# Altium schematic symbol library Power.SchLib: 26 symbols
Pins are listed as number, name and electrical type; pins without a type are passive.

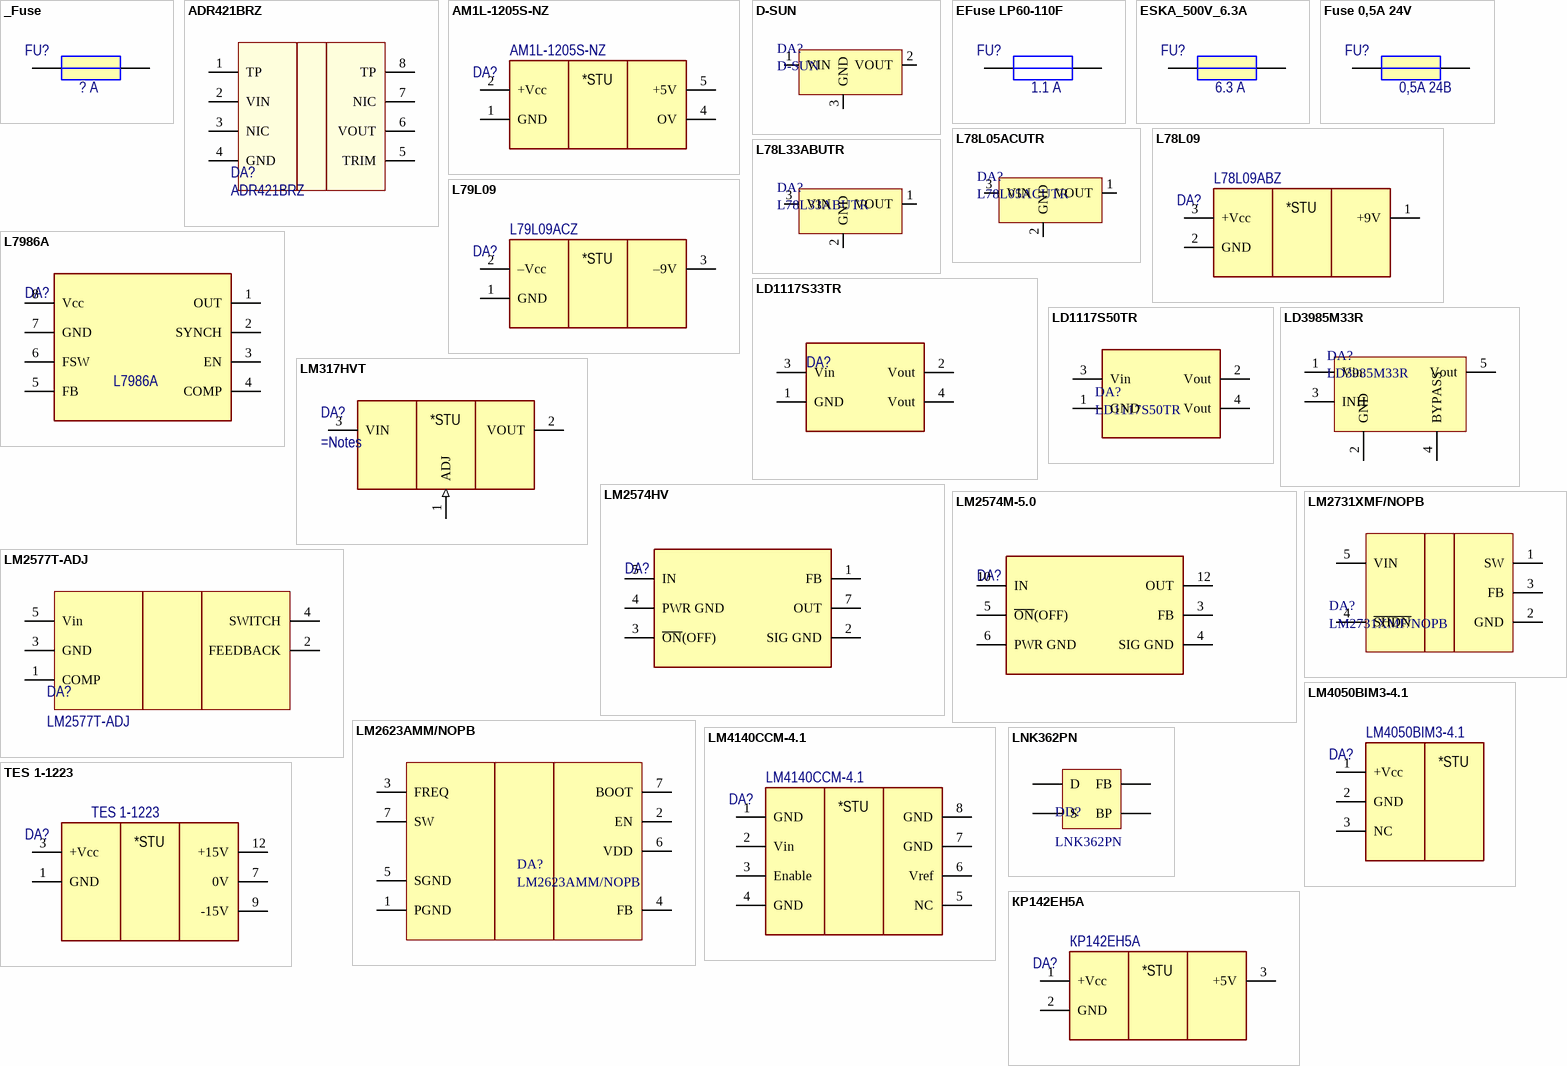
[diagram p0: symbols _Fuse to КР142ЕН5А]

## _Fuse
designator FU?, comment value ? А  (hidden comment: ?)
Fuse; ManufacturerPartNumber: ?; ComponentLink1Description: Datasheet
pins: 1, 2

## ADR421BRZ
designator DA?
IC VREF SERIES 2.5V 8SOIC; Manufacturer: Analog Devices Inc.; ComponentLink1URL: http://www.analog.com/media/en/technical-documentation/data-sheets/ADR420_421_423_425.pdf; ComponentLink1Description: http://www.analog.com/media/en/technical-documentation/data-sheets/ADR420_421_423_425.pdf; ManufacturerPartNumber: ADR421BRZ; Note: *; Price: 300; Supplier: Argussoft
footprint SO8 (SOIC, 8-Leads, Body 4,90x3,90mm, Pitch 1,27mm, IPC Low Density)
pins: 1 TP, 2 VIN, 3 NIC, 4 GND, 5 TRIM, 6 VOUT, 7 NIC, 8 TP

## AM1L-1205S-NZ
designator DA?
DC/DC Isolation; Manufacturer: AIMTEC; ComponentLink1URL: http://www.aimtec.com/site/Aimtec/files/Datasheet/HighResolution/AM1L-N-Z.pdf; Package: SMD-8; Price: 166,68; Supplier: Диджитек; ComponentLink1Description: Datasheet; ManufacturerPartNumber: AM1L-1205S-NZ
footprint SOP254P1120X625-8M (SOP, 8-Leads, Body 12,70x7,25mm, Pitch 2,54mm, IPC Low Density)
footprint SOP254P1120X625-8M (SOP, 8-Leads, Body 12,70x7,25mm, Pitch 2,54mm, IPC Low Density)
pins: 1 GND (power), 2 +Vcc (power), 4 OV (power), 5 +5V (power)
text: *STU

## D-SUN
designator DA?
DC-DC buck converter; Manufacturer: China; ManufacturerPartNumber: D-SUN
footprint D-SUN
pins: 1 VIN, 2 VOUT, 3 GND

## EFuse LP60-110F
designator FU?  value 1.1 А  (hidden comment: EFuse LP60-110F)
Fuse; ManufacturerPartNumber: EFuse LP60-110F; ComponentLink1Description: Datasheet; ComponentLink2Description: Datasheet-local; ComponentLink2URL: *
footprint EFuse 1.1A
pins: 1, 2

## ESKA_500V_6.3A
designator FU?, comment value 6.3 А  (hidden comment: ESKA 120.700 (1207))
Fuse; ManufacturerPartNumber: ESKA 120.700 (1207); ComponentLink1Description: Datasheet; ComponentLink1URL: http://conrad.ru/doci/dergatel_predohranitelya_eska__533920_multi.pdf; ComponentLink2Description: Datasheet-local; ComponentLink2URL: *
footprint ESKA_1207 (Держатель для предохранителя 5mm x 20mm)
pins: 1, 2

## Fuse 0,5A 24V
designator FU?, comment value 0,5А 24В  (hidden comment: miniSMDC050F-2)
Fuse 0,5А 36В; Manufacturer: RAYCHEM; ManufacturerPartNumber: miniSMDC050F-2; ComponentLink1Description: Datasheet; Price: 16,90; Supplier: Промэлектроника; ComponentLink2Description: Datasheet-local; ComponentLink2URL: *
footprint EFUSEC4632X06M (Chip eFuse, 2-Leads, Body 4,55x3,24mm, IPC Low Density)
pins: 1, 2

## L78L05ACUTR
designator DA?
STMICROELECTRONICS         L78L05ACUTR            Linear Voltage Regulator, Fixed, 3-Terminal, Positive, 10V To 30V In, 5V And 0.1A Out, SOT-89-3; Number of Outputs: 1; Max Output Current: 100mA; Quiescent Current: 6mA; Accuracy: 4%; Dropout Voltage: 1.7V; Min Input Voltage: 7V; Power Supply Rejection Ratio (PSRR): 49dB; Supplier 1: Digikey; Manufacturer: STMicroelectronics; ManufacturerPartNumber: L78L05ACUTR; Stock 1: 10000; Pricing 1: 2500=0.1188, 5000=0.1116, 12500=0.1044, 25000=0.0958, 62500=0.0922 (USD); Mount: Surface Mount; Case/Package: SOT-89; Number of Pins: 3; Weight: 0.004603oz; Contact Plating: Tin; Min Operating Temperature: 0°C; Max Operating Temperature: 125°C; Max Input Voltage: 30V; Output Voltage: 5V; Polarity: Positive; Package Quantity: 1; Packaging: Tape and Reel; Output Current: 100mA; Nominal Output Voltage: 5V; Number of Regulators: 1; Min Output Voltage: 5V; Output Voltage Accuracy: 4%; Length: 4.6mm; Height: 1.6mm; Width: 2.6mm; Radiation Hardening: No; REACH SVHC: No SVHC; Lead Free: Lead Free; ComponentLink1URL: https://datasheet.ciiva.com/4882/cd00000446-355303-4882429.pdf; ComponentLink1Description: https://datasheet.ciiva.com/4882/cd00000446-355303-4882429.pdf; ComponentLink2URL: https://datasheet.ciiva.com/22710/1868798-22710940.pdf; ComponentLink2Description: https://datasheet.ciiva.com/22710/1868798-22710940.pdf; ComponentLink3URL: https://datasheet.ciiva.com/2041/cd00000446-2041791.pdf; ComponentLink3Description: https://datasheet.ciiva.com/2041/cd00000446-2041791.pdf; ComponentLink4URL: https://datasheet.ciiva.com/2041/cd00000446-2041790.pdf; ComponentLink4Description: https://datasheet.ciiva.com/2041/cd00000446-2041790.pdf; ComponentLink5URL: https://datasheet.ciiva.com/1511/1868798-1511940.pdf; ComponentLink5Description: https://datasheet.ciiva.com/1511/1868798-1511940.pdf; ComponentLink6URL: https://datasheet.ciiva.com/2041/cd00000446-2041792.pdf; ComponentLink6Description: https://datasheet.ciiva.com/2041/cd00000446-2041792.pdf; ComponentLink7URL: https://datasheet.ciiva.com/16393/cd00000446-16393708.pdf; ComponentLink7Description: https://datasheet.ciiva.com/16393/cd00000446-16393708.pdf; ComponentLink8URL: https://datasheet.ciiva.com/7992/1868798-7992600.pdf; ComponentLink8Description: https://datasheet.ciiva.com/7992/1868798-7992600.pdf; Supplier Part Number 1: 497-1183-2-ND
footprint SOT89-150P409X160-3N (SOT89, 3-Leads, Body 4,50x2,45mm, Pitch 1,50mm, Lead Span 4,1mm, IPC Medium Density)
pins: 1 VOUT, 2 GND, 3 VIN

## L78L09
designator DA?, comment L78L09ABZ
DC/DC Positive; Manufacturer: ST Microelectronics; Package: TO-92; ComponentLink1URL: http://www.st.com/web/en/resource/technical/document/datasheet/CD00000446.pdf; ComponentLink1Description: Datasheet; Price: 10,88; Supplier: Промэлектроника; ManufacturerPartNumber: L78L09ABZ
footprint TO-92W (TO-92)
pins: 1 +9V (power), 2 GND (power), 3 +Vcc (power)
text: *STU

## L78L33ABUTR
designator DA?
Регулятор линейный 3,3В 0.1A. Uвх_max=30В SOT-89-3; Manufacturer: STMicroelectronics; ManufacturerPartNumber: L78L33ABUTR; ComponentLink1URL: https://datasheet.ciiva.com/4882/cd00000446-355303-4882429.pdf; ComponentLink1Description: https://datasheet.ciiva.com/4882/cd00000446-355303-4882429.pdf
footprint SOT89-150P409X160-3N (SOT89, 3-Leads, Body 4,50x2,45mm, Pitch 1,50mm, Lead Span 4,1mm, IPC Medium Density)
pins: 1 VOUT, 2 GND, 3 VIN

## L79L09
designator DA?, comment L79L09ACZ
DC/DC Negative; Manufacturer: ST Microelectronics; Package: TO-92; ComponentLink1Description: Datasheet; ComponentLink1URL: http://www.st.com/st-web-ui/static/active/en/resource/technical/document/datasheet/CD00000539.pdf; Supplier: Промэлектроника; Price: 14,77; ManufacturerPartNumber: L79L09ACZ
footprint TO-92W (TO-92)
pins: 1 GND (power), 2 –Vcc (power), 3 –9V (power)
text: *STU

## L7986A
designator DA?
3 A step-down switching regulator; Manufacturer: ST; Package: HSOP8; Supplier: Промэлектроника; ComponentLink1Description: Datasheet; ComponentLink1URL: http://www.st.com/web/en/resource/technical/document/datasheet/DM00041568.pdf; Price: 180; Note: Note; ManufacturerPartNumber: L7986A
footprint HSOP8 (SOIC, 8-Leads, Body 4,90x3,90mm, Pitch 1,27mm, IPC Low Density)
pins: 1 OUT "Regulator output", 2 SYNCH "Master/slave synchronization. When it is left floating, a signal with a phase shift of half a period, with respect to the power turn-on is present at the pin. When connected to an external signal at a frequency higher than the internal one, the device is synchronized by the external signal, with zero phase shift. Connecting together the SYNCH pin of two devices, the one with a higher frequency works as master and the other one as slave; so the two powers turn-ons have a phase shift of half a period.", 3 EN "A logical signal (active high) enables the device. With EN higher than 1.2 V the device is ON and with EN lower than 0.3 V the device is OFF", 4 COMP "Error amplifier output to be used for loop frequency compensation", 5 FB "Feedback input. By connecting the output voltage directly to this pin the output voltage is regulated at 0.6 V. To have higher regulated voltages an external resistor divider is required from Vout to the FB pin", 6 FSW "The switching frequency can be increased connecting an external resistor from the FSW pin and ground. If this pin is left floating, the device works at its free-running frequency of 250 KHz.", 7 GND "Ground", 8 Vcc "Unregulated DC input voltage"

## LD1117S33TR
designator DA?, comment LD1117
LDO регулятор напряжения 3.3V 1.0A Positive; Manufacturer: STMicroelectronics; ManufacturerPartNumber: LD1117S33TR; ComponentLink1URL: http://www.mouser.com/ds/2/389/CD00002116-250310.pdf; ComponentLink1Description: http://www.mouser.com/ds/2/389/CD00002116-250310.pdf; Price: 45; Note: *; Supplier: *
footprint SOT230P700X180-4L (SOT223, 4-Leads, Body 6,50x7,00mm (avg), Pitch 2,30mm, IPC High Density)
pins: 1 GND, 2 Vout, 3 Vin, 4 Vout

## LD1117S50TR
designator DA?
STMICROELECTRONICS         LD1117S50TR            Fixed LDO Voltage Regulator, 6.5V to 15V, 1.1V Dropout, 5Vout, 800mAout, SOT-223-3; Number of Outputs: 1; Max Output Current: 1.3A; Output Voltage: 5V; Max Power Dissipation: 12W; Polarity: Positive; Quiescent Current: 5mA; Accuracy: 1%; Output Current: 800mA; Supplier 1: Mouser; Manufacturer: STMicroelectronics; Manufacturer Part Number: LD1117S50TR; Stock 1: 251; Pricing 1: 1=0.5, 10=0.377, 50=0.377, 100=0.204, 1000=0.153, 10000=0.124 (USD); Mount: Surface Mount; Case/Package: SOT-223; Number of Pins: 4; Weight: 0.01lb; Number of Terminals: 4; Contact Plating: Tin,Matte; Min Operating Temperature: 0°C; Max Operating Temperature: 125°C; Max Input Voltage: 15V; Packaging: Tape and Reel; Dropout Voltage: 1.1V; Max Supply Voltage: 15V; Min Supply Voltage: 6.5V; Package Quantity: 1; Min Input Voltage: 6.5V; Nominal Output Voltage: 5V; Number of Regulators: 1; Input Bias Current: 5mA; Min Output Voltage: 5V; Power Dissipation: 12W; Max Output Voltage: 5V; Termination: SMD/SMT; Output Voltage Accuracy: 1%; Length: 6.5mm; Height: 1.8mm; Width: 3.5mm; Radiation Hardening: No; REACH SVHC: No SVHC; Lead Free: Lead Free; ComponentLink1URL: https://datasheet.ciiva.com/36525/1390266-36525981.pdf; ComponentLink1Description: https://datasheet.ciiva.com/36525/1390266-36525981.pdf; ComponentLink2URL: https://datasheet.ciiva.com/2041/cd00000544-2041931.pdf; ComponentLink2Description: https://datasheet.ciiva.com/2041/cd00000544-2041931.pdf; ComponentLink3URL: https://datasheet.ciiva.com/7992/1776449-7992623.pdf; ComponentLink3Description: https://datasheet.ciiva.com/7992/1776449-7992623.pdf; ComponentLink4URL: https://datasheet.ciiva.com/2041/cd00000544-2041930.pdf; ComponentLink4Description: https://datasheet.ciiva.com/2041/cd00000544-2041930.pdf; ComponentLink5URL: https://datasheet.ciiva.com/22694/1776449-22694853.pdf; ComponentLink5Description: https://datasheet.ciiva.com/22694/1776449-22694853.pdf; ComponentLink6URL: https://datasheet.ciiva.com/1511/1776449-1511575.pdf; ComponentLink6Description: https://datasheet.ciiva.com/1511/1776449-1511575.pdf; ComponentLink7URL: https://datasheet.ciiva.com/2041/cd00000544-2041929.pdf; ComponentLink7Description: https://datasheet.ciiva.com/2041/cd00000544-2041929.pdf; Supplier Part Number 1: 511-LD1117S50
footprint SOT230P700X180-4L (SOT223, 4-Leads, Body 6,50x7,00mm (avg), Pitch 2,30mm, IPC High Density)
pins: 1 GND, 2 Vout, 3 Vin, 4 Vout

## LD3985M33R
designator DA?
IC REG LDO 3.3V 0.15A SOT23-5; Manufacturer: STMicroelectronics; Min Input Voltage: 2.5V; Number of Outputs: 1; Max Input Voltage: 6V; Polarity: Positive; Quiescent Current: 150uA; Accuracy: 2%; Max Output Current: 150mA; Dropout Voltage: 60mV; Min Current Limit: 300mA; Input Bias Current: 85uA; Supplier 1: Mouser; Manufacturer Part Number: LD3985M33R; Stock 1: 8313; Pricing 1: 1=0.6, 10=0.496, 50=0.496, 100=0.32, 1000=0.256, 10000=0.209 (USD); Mount: Surface Mount; Case/Package: SOT-23; Number of Pins: 5; Min Operating Temperature: -40°C; Max Operating Temperature: 125°C; Output Voltage: 3.3V; Packaging: Tape and Reel; Package Quantity: 1; Output Current: 150mA; Number of Regulators: 1; Min Output Voltage: 3.3V; Output Voltage Accuracy: 2%; Length: 3mm; Height: 1.3mm; Width: 1.75mm; Radiation Hardening: No; Lead Free: Lead Free; ComponentLink1URL: https://datasheet.ciiva.com/41440/001185181-da-01-en-ic-reg-ldo-3-3v-ld3985m33r-sot-23-5-stm-41440289.pdf; ComponentLink1Description: https://datasheet.ciiva.com/41440/001185181-da-01-en-ic-reg-ldo-3-3v-ld3985m33r-sot-23-5-stm-41440289.pdf; ComponentLink2URL: https://datasheet.ciiva.com/26905/ld3985m33r-26905032.pdf; ComponentLink2Description: https://datasheet.ciiva.com/26905/ld3985m33r-26905032.pdf; ComponentLink3URL: https://datasheet.ciiva.com/2042/cd00003395-2042198.pdf; ComponentLink3Description: https://datasheet.ciiva.com/2042/cd00003395-2042198.pdf; ComponentLink4URL: https://datasheet.ciiva.com/2042/cd00003395-2042199.pdf; ComponentLink4Description: https://datasheet.ciiva.com/2042/cd00003395-2042199.pdf; ComponentLink5URL: https://datasheet.ciiva.com/2042/cd00003395-2042200.pdf; ComponentLink5Description: https://datasheet.ciiva.com/2042/cd00003395-2042200.pdf; ComponentLink6URL: https://datasheet.ciiva.com/16591/cd00003395-16591967.pdf; ComponentLink6Description: https://datasheet.ciiva.com/16591/cd00003395-16591967.pdf; Supplier Part Number 1: 511-LD3985M33R
footprint SOT95P280X145-5N (SOT23, 5-Leads, Body 3,13x2,80mm, Pitch 0,95mm, IPC Medium Density)
pins: 1 Vin (power), 2 GND (power), 3 INH (power), 4 BYPASS (power), 5 Vout (power)

## LM317HVT
designator DA?
DC/DC Positive Adj; Manufacturer: Texas Instruments; ManufacturerPartNumber: LM317HVT/NOPB; Note: LM317; Package: TO-220; ComponentLink1URL: http://www.ti.com/lit/ds/symlink/lm2574.pdf; ComponentLink1Description: Datasheet; Price: 100; Supplier: Промэлектроника
footprint TO220-R (Лежачий TO-220)
pins: 1 ADJ (in), 2 VOUT (power), 3 VIN (power)
text: *STU

## LM2574HV
designator DA?
Импульсный преобразователь Uвх<=60В; Manufacturer: Linear; Note: Voltage reg; Package: DIP-8; Price: 90; ManufacturerPartNumber: LM2574HV; Supplier: Промэлектроника
footprint DIP8
pins: 1 FB, 2 SIG GND, 3 ~{ON}(OFF), 4 PWR GND, 5 IN, 7 OUT

## LM2574M-5.0
designator DA?
Импульсный понижающий 5В регулятор; Manufacturer: Linear; ManufacturerPartNumber: LM2574M-5.0; Note: *; Price: 40; Supplier: Промэлектроника
footprint SOIC127P1030X264-14M (SOIC, 14-Leads, Body 8,99x7,49mm, Pitch 1,27mm, IPC Low Density)
pins: 3 FB, 4 SIG GND, 5 ~{ON}(OFF), 6 PWR GND, 10 IN, 12 OUT

## LM2577T-ADJ
designator DA?
STEP-UP VOLTAGE REGULATOR, TO-220-5; Manufacturer: TEXAS INSTRUMENTS; ManufacturerPartNumber: LM2577T-ADJ; ComponentLink1URL: http://www.farnell.com/datasheets/1997655.pdf; ComponentLink1Description: http://www.farnell.com/datasheets/1997655.pdf; Note: *; Price: 70; Supplier: Промэлектроника
footprint TO220-5 (Лежачий)
footprint TO220-5_2 (Стоячий)
pins: 1 COMP, 2 FEEDBACK, 3 GND, 4 SWITCH, 5 Vin

## LM2623AMM/NOPB
designator DA?
IC REG BOOST ADJ 2A 8-MSOP; Manufacturer: TI National Semiconductor; Output Voltage: 14V; Number of Outputs: 1; Switching Frequency: 2MHz; Min Input Voltage: 800mV; Quiescent Current: 80uA; Efficiency: 87%; Min Output Voltage: 1.24V; Output Power: 500mW; Nominal Supply Current: 16mA; Supplier 1: Mouser; Manufacturer Part Number: LM2623AMM/NOPB; Stock 1: 8245; Pricing 1: 1=1.62, 10=1.43, 25=1.29, 50=1.2, 100=1.13, 250=0.968, 500=0.855, 750=0.747, 1000=0.563 (USD); Mount: Surface Mount; Case/Package: MSOP; Number of Pins: 8; Min Operating Temperature: -40°C; Max Operating Temperature: 85°C; Output Current: 2A; Max Output Current: 2A; Max Input Voltage: 14V; Packaging: Tape and Reel; Topology: Boost; Package Quantity: 1000; Min Supply Voltage: 800mV; Max Output Voltage: 14V; Length: 3mm; Height: 0.86mm; Width: 3.1mm; Radiation Hardening: No; Lead Free: Lead Free; REACH SVHC: No SVHC; ComponentLink1URL: https://datasheet.ciiva.com/15113/getdatasheetpartid-203526-15113378.pdf; ComponentLink1Description: https://datasheet.ciiva.com/15113/getdatasheetpartid-203526-15113378.pdf; ComponentLink2URL: https://datasheet.ciiva.com/6594/lm2623-6594232.pdf; ComponentLink2Description: https://datasheet.ciiva.com/6594/lm2623-6594232.pdf; ComponentLink3URL: https://datasheet.ciiva.com/26102/lm2623-26102524.pdf; ComponentLink3Description: https://datasheet.ciiva.com/26102/lm2623-26102524.pdf; ComponentLink4URL: https://datasheet.ciiva.com/3220/lm2623-3220798.pdf; ComponentLink4Description: https://datasheet.ciiva.com/3220/lm2623-3220798.pdf; ComponentLink5URL: https://datasheet.ciiva.com/6594/lm2623-6594230.pdf; ComponentLink5Description: https://datasheet.ciiva.com/6594/lm2623-6594230.pdf; ComponentLink6URL: https://datasheet.ciiva.com/6594/lm2623-6594231.pdf; ComponentLink6Description: https://datasheet.ciiva.com/6594/lm2623-6594231.pdf; ComponentLink7URL: https://datasheet.ciiva.com/14150/lm2623-eng-tds-14150599.pdf; ComponentLink7Description: https://datasheet.ciiva.com/14150/lm2623-eng-tds-14150599.pdf; Supplier Part Number 1: 926-LM2623AMM/NOPB
footprint 8VSSOP (VSSOP, 8-Leads, Body 3,00x3,00mm, Pitch 0,65mm, IPC Medium Density)
pins: 1 PGND, 2 EN, 3 FREQ, 4 FB, 5 SGND, 6 VDD, 7 BOOT, 7 SW

## LM2731XMF/NOPB
designator DA?
TEXAS INSTRUMENTS   LM2731XMF/NOPB.   BOOST CONVERTER, 5-SOT-23, FULL REEL; Output Voltage: 22V; Number of Outputs: 1; Efficiency: 85%; Min Input Voltage: 2.7V; Max Input Voltage: 14V; Frequency: 1.6MHz; Output Current: 2mA; Max Output Current: 1.5A; Min Output Voltage: 1.23V; Nominal Supply Current: 500uA; Supplier 1: Mouser; Manufacturer: Texas Instruments; Manufacturer Part Number: LM2731XMF/NOPB; Stock 1: 0; Pricing 1: 1=1.82, 10=1.54, 50=1.54, 100=1.24, 1000=0.894, 10000=0.77 (USD); Mount: Surface Mount; Case/Package: SOT-23; Number of Pins: 5; Contact Plating: Tin,Matte; Min Operating Temperature: -40°C; Max Operating Temperature: 125°C; Packaging: Tape and Reel; Quiescent Current: 2mA; Topology: Boost; Package Quantity: 1000; Min Supply Voltage: 2.7V; Switching Frequency: 1.6MHz; Max Supply Voltage: 14V; Max Output Voltage: 22V; Termination: SMD/SMT; Length: 2.92mm; Height: 1.02mm; Width: 1.6mm; Radiation Hardening: No; REACH SVHC: No SVHC; Lead Free: Lead Free; ComponentLink1URL: https://datasheet.ciiva.com/15112/getdatasheetpartid-123619-15112979.pdf; ComponentLink1Description: https://datasheet.ciiva.com/15112/getdatasheetpartid-123619-15112979.pdf; ComponentLink2URL: https://datasheet.ciiva.com/22669/1772278-22669474.pdf; ComponentLink2Description: https://datasheet.ciiva.com/22669/1772278-22669474.pdf; ComponentLink3URL: https://datasheet.ciiva.com/6598/lm2731-6598044.pdf; ComponentLink3Description: https://datasheet.ciiva.com/6598/lm2731-6598044.pdf; ComponentLink4URL: https://datasheet.ciiva.com/46382/1882673-46382493.pdf; ComponentLink4Description: https://datasheet.ciiva.com/46382/1882673-46382493.pdf; ComponentLink5URL: https://datasheet.ciiva.com/46382/1882673-46382607.pdf; ComponentLink5Description: https://datasheet.ciiva.com/46382/1882673-46382607.pdf; ComponentLink6URL: https://datasheet.ciiva.com/6598/lm2731-6598043.pdf; ComponentLink6Description: https://datasheet.ciiva.com/6598/lm2731-6598043.pdf; ComponentLink7URL: https://datasheet.ciiva.com/14304/lm2731-14304517.pdf; ComponentLink7Description: https://datasheet.ciiva.com/14304/lm2731-14304517.pdf; ComponentLink8URL: https://datasheet.ciiva.com/6598/lm2731-6598042.pdf; ComponentLink8Description: https://datasheet.ciiva.com/6598/lm2731-6598042.pdf; ComponentLink9URL: https://datasheet.ciiva.com/26098/lm2731-26098842.pdf; ComponentLink9Description: https://datasheet.ciiva.com/26098/lm2731-26098842.pdf; Supplier Part Number 1: 926-LM2731XMF/NOPB
footprint SOT95P280X145-5N (SOT23, 5-Leads, Body 3,13x2,80mm, Pitch 0,95mm, IPC Medium Density)
pins: 1 SW, 2 GND, 3 FB, 4 ~{SHDN}, 5 VIN

## LM4050BIM3-4.1
designator DA?
Precision Micropower Shunt Voltage Reference; Manufacturer: Texas Instruments; Package: SOT23; ComponentLink1URL: http://www.ti.com/lit/ds/symlink/lm4050-n.pdf; ComponentLink1Description: Datasheet; Price: 99,84; Supplier: Промэлектроника; ComponentLink2URL: .\datasheet\L78LxxAB.pdf; ComponentLink2Description: Datasheet-local; ManufacturerPartNumber: LM4050BIM3-4.1
footprint L78L09 (TO-92)
pins: 1 +Vcc (power), 2 GND (power), 3 NC
text: *STU

## LM4140CCM-4.1
designator DA?
Precision Micropower Shunt Voltage Reference; Manufacturer: Texas Instruments; Package: SO8; ComponentLink1URL: http://www.ti.com/lit/ds/symlink/lm4140.pdf; ComponentLink1Description: Datasheet; Price: 78,68; Supplier: Промэлектроника; ComponentLink2URL: *; ComponentLink2Description: Datasheet-local; ManufacturerPartNumber: LM4140CCM-4.1
footprint SO8 (SOIC, 8-Leads, Body 4,90x3,90mm, Pitch 1,27mm, IPC Low Density)
pins: 1 GND (power), 2 Vin (power), 3 Enable, 4 GND, 5 NC, 6 Vref, 7 GND, 8 GND
text: *STU

## LNK362PN
designator DD?
IC OFFLINE SWIT HV 8DIP; Manufacturer: Power Integrations; Max Power Dissipation: 2.8W; Breakdown Voltage: 700V; Max Supply Voltage (AC): 265V; Min Supply Voltage (AC): 85V; Switching Frequency: 132KHz; Max Duty Cycle: 60%; Output Voltage: 6V; Power Rating: 2.6W; Number of Outputs: 1; Output Current: 330mA; Nominal Supply Current: 300uA; Topology: Flyback; Supplier 1: Digi-Key; ManufacturerPartNumber: LNK362PN; Stock 1: 699; Pricing 1: 1=1.26, 10=1.116, 25=1.008, 100=0.882, 250=0.774, 500=0.684, 1000=0.54, 2500=0.504, 5000=0.4788 (USD); Mount: Through Hole; Case/Package: DIP; Number of Pins: 7; Min Operating Temperature: -40°C; Max Operating Temperature: 150°C; Packaging: Rail/Tube; Package Quantity: 50; Output Power: 2.6W; Min Input Voltage: 85V; Max Input Voltage: 265V; Min Input Voltage (AC): 85V; Max Input Voltage (AC): 265V; Length: 9.83mm; Height: 3.68mm; Width: 6.6mm; Radiation Hardening: No; Lead Free: Lead Free; REACH SVHC: No SVHC; ComponentLink1URL: https://datasheet.ciiva.com/14150/ghlinkswitch-xt-lnk-362-364-en-14150492.pdf; ComponentLink1Description: https://datasheet.ciiva.com/14150/ghlinkswitch-xt-lnk-362-364-en-14150492.pdf; ComponentLink2URL: https://datasheet.ciiva.com/1930/lnk362-364-1930519.pdf; ComponentLink2Description: https://datasheet.ciiva.com/1930/lnk362-364-1930519.pdf; Supplier Part Number 1: 596-1084-5-ND
footprint LNK
pins: BP, D, FB, S

## TES 1-1223
designator DA?
DC/DC Isolation; Manufacturer: Traco Electronic AG; ComponentLink1URL: http://www.tracopower.com/products/tes1.pdf; ComponentLink1Description: Datasheet; Price: 89,90; Package: not standard; Supplier: Аргуссофт; ManufacturerPartNumber: TES 1-1223
footprint SOP254P1120X700-10M (SOP, 10-Leads, Body 16,30x8,00mm, Pitch 2,54mm, IPC Low Density)
pins: 1 GND, 3 +Vcc, 7 0V (power), 9 -15V (power), 12 +15V (power)
text: *STU

## КР142ЕН5А
designator DA?
DC/DC Positive; Manufacturer: СССР; Package: TO-220; ComponentLink1Description: Datasheet; Price: 15,53; Supplier: Промэлектроника; ManufacturerPartNumber: КР142ЕН5А
footprint TO220
pins: 1 +Vcc (power), 2 GND (power), 3 +5V (power)
text: *STU